# Altium footprint library PcbLib1.PcbLib: 1 footprints
Each footprint in its own frame and in the unit in brackets; x right, y up, seen from the top. Pads: shape width x height; smd on the part's side, far side on the other; paste and mask are expansions set on the pad; w line width, h text height; cw(c..) or ccw(c..) is an arc to the next point about the centre after c.
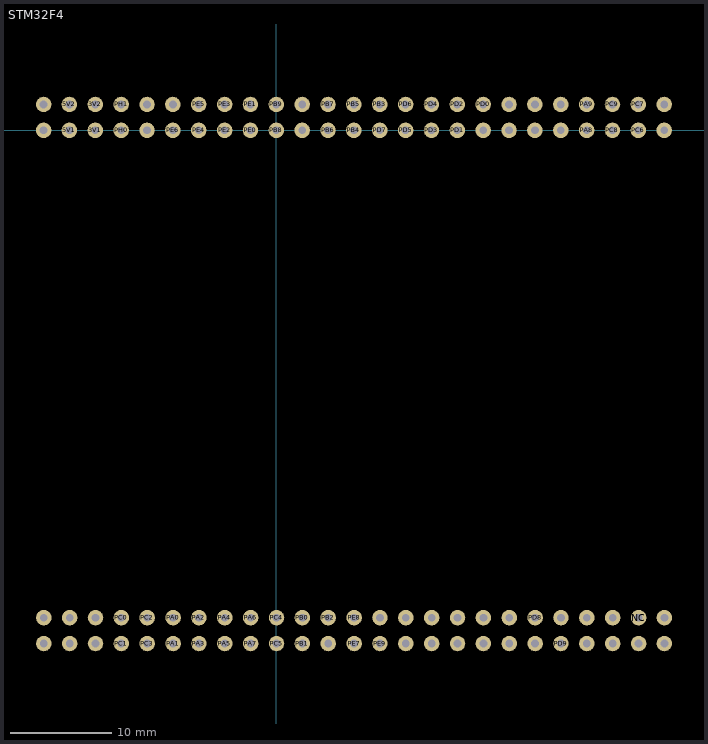
[diagram p0: the footprint, top view; thin cyan lines are the x and y axes]

## STM32F4 [mil]
pads (100):
  round 60 hole 30: 3V1(-700,0) 3V2(-700,100) 5V1(-800,0) 5V2(-800,100) BOOT0(100,0) GND1(-899.19,-1984.62) GND2(-899.19,-1884.62) GND3(-699.19,-1984.62) GND4(200.81,-1984.62) GND5(1500.81,-1984.62) GND6(1500.81,-1884.62) GND7(-900,0) GND8(-900,100) GND9(1500,0) GND10(1500,100) NC(1400.81,-1884.62) NRST(-699.19,-1884.62) PA0(-399.19,-1884.62) PA1(-399.19,-1984.62) PA2(-299.19,-1884.62) PA3(-299.19,-1984.62) PA4(-199.19,-1884.62) PA5(-199.19,-1984.62) PA6(-99.19,-1884.62) PA7(-99.19,-1984.62) PA8(1200,0) PA9(1200,100) PA10(1100,0) PA13(1100,100) PA14(1000,0) PA15(1000,100) PB0(100.81,-1884.62) PB1(100.81,-1984.62) PB2(200.81,-1884.62) PB3(400,100) PB4(300,0) PB5(300,100) PB6(200,0) PB7(200,100) PB8(0,0) PB9(0,100) PB10(700.81,-1884.62) PB11(800.81,-1984.62) PB12(800.81,-1884.62) PB13(900.81,-1984.62) PB14(900.81,-1884.62) PB15(1000.81,-1984.62) PC0(-599.19,-1884.62) PC1(-599.19,-1984.62) PC2(-499.19,-1884.62) PC3(-499.19,-1984.62) PC4(0.81,-1884.62) PC5(0.81,-1984.62) PC6(1400,0) PC7(1400,100) PC8(1300,0) PC9(1300,100) PC10(900,0) PC11(900,100) PC12(800,0) PC13(-400,100) PC14(-500,0) PC15(-500,100) PD0(800,100) PD1(700,0) PD2(700,100) PD3(600,0) PD4(600,100) PD5(500,0) PD6(500,100) PD7(400,0) PD8(1000.81,-1884.62) PD9(1100.81,-1984.62) PD10(1100.81,-1884.62) PD11(1200.81,-1984.62) PD12(1200.81,-1884.62) PD13(1300.81,-1984.62) PD14(1300.81,-1884.62) PD15(1400.81,-1984.62) PE0(-100,0) PE1(-100,100) PE2(-200,0) PE3(-200,100) PE4(-300,0) PE5(-300,100) PE6(-400,0) PE7(300.81,-1984.62) PE8(300.81,-1884.62) PE9(400.81,-1984.62) PE10(400.81,-1884.62) PE11(500.81,-1984.62) PE12(500.81,-1884.62) PE13(600.81,-1984.62) PE14(600.81,-1884.62) PE15(700.81,-1984.62) PH0(-600,0) PH1(-600,100) VDD1(-799.19,-1984.62) VDD2(-799.19,-1884.62) VDD3(100,100)